# Altium schematic symbol library C15849.SchLib: 1 symbol
Pins are listed as number, name and electrical type; pins without a type are passive.

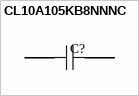
[diagram p0: symbol CL10A105KB8NNNC]

## CL10A105KB8NNNC
designator C?  (value not drawn)
1uF ±10% 50V Ceramic Capacitor X5R 0603; Name: C15849; Source: LCSC; Value: 1uF
footprint C0603 (1uF ±10% 50V Ceramic Capacitor X5R 0603)
pins: 1, 2